# Altium footprint library Switch_Cherry_MX1A-C1NW_eec_0.PcbLib: 1 footprints
Each footprint in its own frame and in the unit in brackets; x right, y up, seen from the top. Pads: shape width x height; smd on the part's side, far side on the other; paste and mask are expansions set on the pad; w line width, h text height; cw(c..) or ccw(c..) is an arc to the next point about the centre after c.
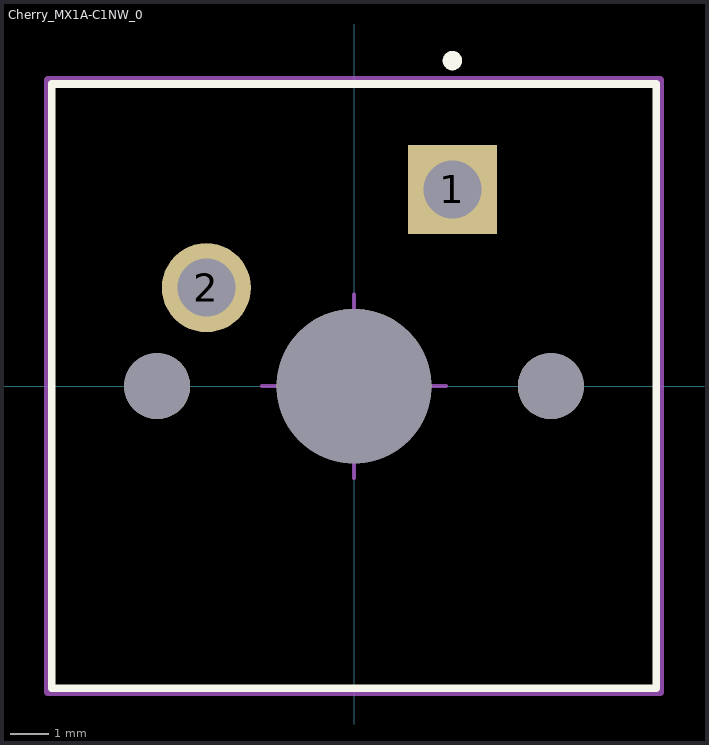
[diagram p0: the footprint, top view; thin cyan lines are the x and y axes]

## Cherry_MX1A-C1NW_0 [mil]
pads (5):
  rect 90.5x90.5 hole 59 paste-39370.1 mask+0: 1(100,200)
  round 90.5 hole 59 paste-39370.1 mask+0: 2(-150,100)
  round 67 hole 67 unplated paste-39370.1 mask+0: ""(-200,0) ""(200,0)
  round 157 hole 157 unplated paste-39370.1 mask+0: ""(0,0)
Top Overlay:
  circle w9.84: c100,330.71 r4.92
  lines w7.87: -307.09,-307.09 307.09,-307.09 307.09,307.09 -307.09,307.09 -307.09,-307.09
Mechanical 10:
  lines w7.87: -311.02,-311.02 311.02,-311.02 311.02,311.02 -311.02,311.02 -311.02,-311.02
  text ".Designator" at 0,0 h39.37
Mechanical 12:
  lines w5.91: -307.09,-307.09 307.09,-307.09 307.09,307.09 -307.09,307.09 -307.09,-307.09
Mechanical 15:
  lines w3.94: -93.31,0 93.31,0 ; 0,-93.31 0,93.31
  lines w7.87: -311.02,-311.02 311.02,-311.02 311.02,311.02 -311.02,311.02 -311.02,-311.02
3D body "Switch_Cherry_MX1A-C1NW_eec.STEP": height 10, standoff 0, extent -311.02,-311.02 311.02,311.02